# EAGLE library part CON-8P (library Connectors)
8 position connector
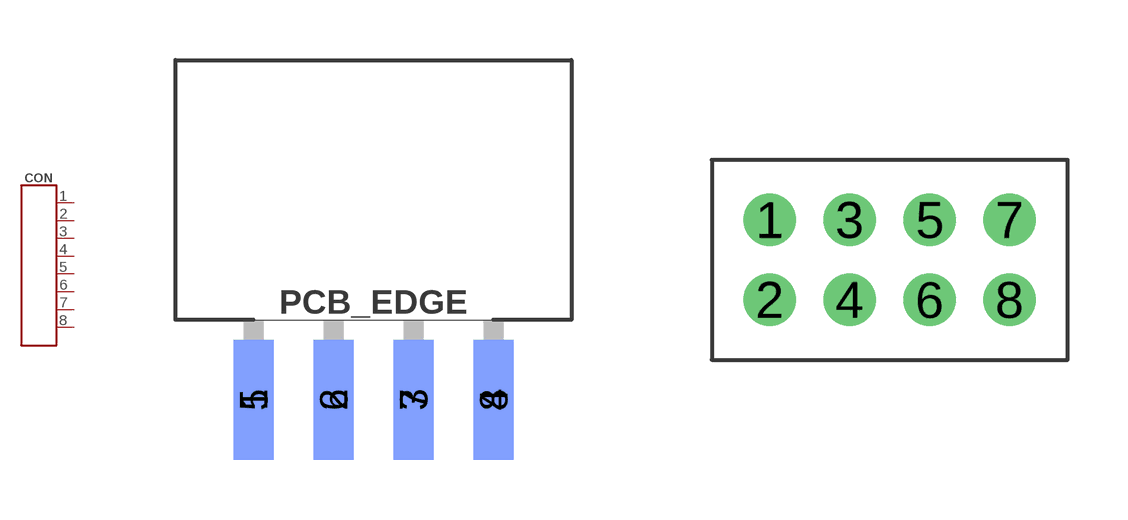
[diagram p31: symbol with the pads of B8B-PHDSS-SIDE_MOUNT; footprints B8B-PHDSS-SIDE_MOUNT, B8B-PHDSS]

Designator prefix CON

## CON-8P-JST-PHDSS-SIDE (DIGIKEY#: 455-2230-ND; MANF: JST Sales America Inc; MANF#: B8B-PHDSS(LF)(SN))  [B8B-PHDSS-SIDE_MOUNT]
1  1
2  2
3  3
4  4
5  5
6  6
7  7
8  8

## CON-8P-JST-PHDSS (DIGIKEY#: 455-2230-ND; MANF: JST Sales America Inc; MANF#: B8B-PHDSS(LF)(SN))  [B8B-PHDSS]
Pads as for B8B-PHDSS-SIDE_MOUNT

## CON-8P-DS1066 (MANF: Connfly electronic; MANF#: DS1066-07M)  [DS1066-08M]
Pads as for B8B-PHDSS-SIDE_MOUNT

## CON-8P-JST-XA (LCSC#: C263751; MANF: JST Sales America; MANF#: B08B-XASK-1(LF)(SN))  [B08B-XASK-1]
Pads as for B8B-PHDSS-SIDE_MOUNT

## CON-8P-JST-JWPF (MANF: JST Sales America; MANF#: B08B-JWPF-SK-R)  [B08B-JWPF-SK-R]
Pads as for B8B-PHDSS-SIDE_MOUNT

## CON-8P-DS1073-01 (ALT: Molex minifit 1724480008; MANF: Connfly electronic; MANF#: DS1073-01-2*4MR2T6)  [DS1073-01-2X4]
Pads as for B8B-PHDSS-SIDE_MOUNT

## CON-8P-DS1013 (MANF: Connfly electronic; MANF#: DS1013-08S)  [DS1013-08S]
Pads as for B8B-PHDSS-SIDE_MOUNT

## Footprint B8B-PHDSS-SIDE_MOUNT (pad centres in mm)
smd 1 x 3: 1 -3,-0.25; 2 -1,-0.25; 3 1,-0.25; 4 3,-0.25
smd 1 x 3 bottom: 5 -3,-0.25; 6 -1,-0.25; 7 1,-0.25; 8 3,-0.25

## Footprint B8B-PHDSS (pad centres in mm)
drill 0.8: 1 -3,1; 2 -3,-1; 3 -1,1; 4 -1,-1; 5 1,1; 6 1,-1; 7 3,1; 8 3,-1

## Footprint DS1066-08M (pad centres in mm)
Datasheet <https://static.chipdip.ru/lib/502/DOC001502873.pdf> 3D model <https://grabcad.com/library/ph-connectors-1>
drill 0.7 pad 1.2 square: 1 -7,0
drill 0.7 pad 1.2: 2 -5,0; 3 -3,0; 4 -1,0; 5 1,0; 6 3,0; 7 5,0; 8 7,0

## Footprint B08B-XASK-1 (pad centres in mm)
Datasheet <https://datasheet.lcsc.com/lcsc/1811011929_JST-Sales-America-B04B-XASK-1-LF-SN_C264994.pdf>
drill 1 pad 1.6 square: 1 -8.75,0
drill 1 pad 1.6: 2 -6.25,0; 3 -3.75,0; 4 -1.25,0; 5 1.25,0; 6 3.75,0; 7 6.25,0; 8 8.75,0

## Footprint B08B-JWPF-SK-R (pad centres in mm)
drill 1 pad 1.6 square: 1 -3,2
drill 1 pad 1.6: 2 -1,2; 3 1,2; 4 3,2; 5 -3,-2; 6 -1,-2; 7 1,-2; 8 3,-2
hole 1.1 at -5.5,3.5

## Footprint DS1073-01-2X4 (pad centres in mm)
Molex minifit Product page <https://www.molex.com/en-us/products/part-detail/1724480008>
drill 1.8 square: 1 -6.3,-2.75
drill 1.8: 2 -2.1,-2.75; 3 2.1,-2.75; 4 6.3,-2.75; 5 6.3,2.75; 6 2.1,2.75; 7 -2.1,2.75; 8 -6.3,2.75
hole 3 at -6.3,10.05
hole 3 at 6.3,10.05

## Footprint DS1013-08S (pad centres in mm)
Drawing <https://static.chipdip.ru/lib/463/DOC002463525.pdf> 3D model <https://grabcad.com/library/idc-connector-collection-2-54-mm-1>
drill 1.02 square: 1 -3.81,1.27
drill 1.02: 2 -3.81,-1.27; 3 -1.27,1.27; 4 -1.27,-1.27; 5 1.27,1.27; 6 1.27,-1.27; 7 3.81,1.27; 8 3.81,-1.27